# EAGLE library part SPARKFUN-BOB-SHIFT-REGISTER (library GW-devices)
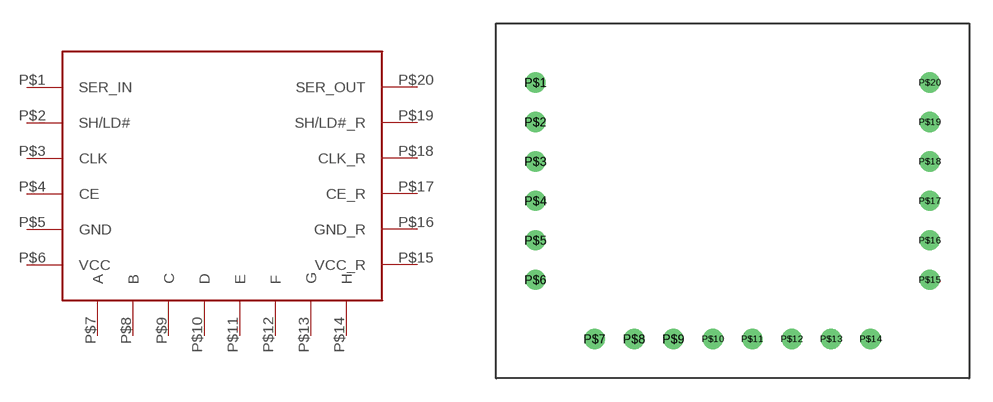
[diagram p45: symbol with the pads of SPARKFUN-BOB-SHIFT-REGISTER; footprint SPARKFUN-BOB-SHIFT-REGISTER]

Designator prefix -

## SPARKFUN-BOB-SHIFT-REGISTER  [SPARKFUN-BOB-SHIFT-REGISTER]
P$1  SER_IN  in
P$2  SH/LD#
P$3  CLK
P$4  CE
P$5  GND
P$6  VCC
P$7  A
P$8  B
P$9  C
P$10  D
P$11  E
P$12  F
P$13  G
P$14  H
P$15  VCC_R
P$16  GND_R
P$17  CE_R
P$18  CLK_R
P$19  SH/LD#_R
P$20  SER_OUT

## Footprint SPARKFUN-BOB-SHIFT-REGISTER (pad centres in mm)
drill 0.8: P$1 -12.7,6.35; P$2 -12.7,3.81; P$3 -12.7,1.27; P$4 -12.7,-1.27; P$5 -12.7,-3.81; P$6 -12.7,-6.35; P$7 -8.89,-10.16; P$8 -6.35,-10.16; P$9 -3.81,-10.16; P$10 -1.27,-10.16; P$11 1.27,-10.16; P$12 3.81,-10.16; P$13 6.35,-10.16; P$14 8.89,-10.16; P$15 12.7,-6.35; P$16 12.7,-3.81; P$17 12.7,-1.27; P$18 12.7,1.27; P$19 12.7,3.81; P$20 12.7,6.35